# EAGLE library part IDCSN-16 (library diego)
idc-16 90° No parte: IDCSN-16 Fabricante: METALTEX
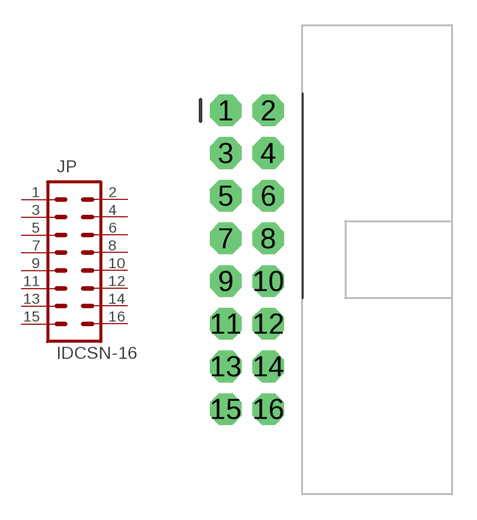
[diagram p3: symbol with the pads of IDCSN-16; footprint IDCSN-16]

Designator prefix JP

## IDCSN-16  [IDCSN-16]
1  1  pas
2  2  pas
3  3  pas
4  4  pas
5  5  pas
6  6  pas
7  7  pas
8  8  pas
9  9  pas
10  10  pas
11  11  pas
12  12  pas
13  13  pas
14  14  pas
15  15  pas
16  16  pas

## Footprint IDCSN-16 (pad centres in mm)
drill 1.016 pad 1.88 octagon: 1 -5.08,5.08; 2 -2.54,5.08; 3 -5.08,2.54; 4 -2.54,2.54; 5 -5.08,0; 6 -2.54,0; 7 -5.08,-2.54; 8 -2.54,-2.54; 9 -5.08,-5.08; 10 -2.54,-5.08; 11 -5.08,-7.62; 12 -2.54,-7.62; 13 -5.08,-10.16; 14 -2.54,-10.16; 15 -5.08,-12.7; 16 -2.54,-12.7